# Altium footprint library CAPacitorMolded(Polarized).PcbLib: 10 footprints
Each footprint in its own frame and in the unit in brackets; x right, y up, seen from the top. Pads: shape width x height; smd on the part's side, far side on the other; paste and mask are expansions set on the pad; w line width, h text height; cw(c..) or ccw(c..) is an arc to the next point about the centre after c.
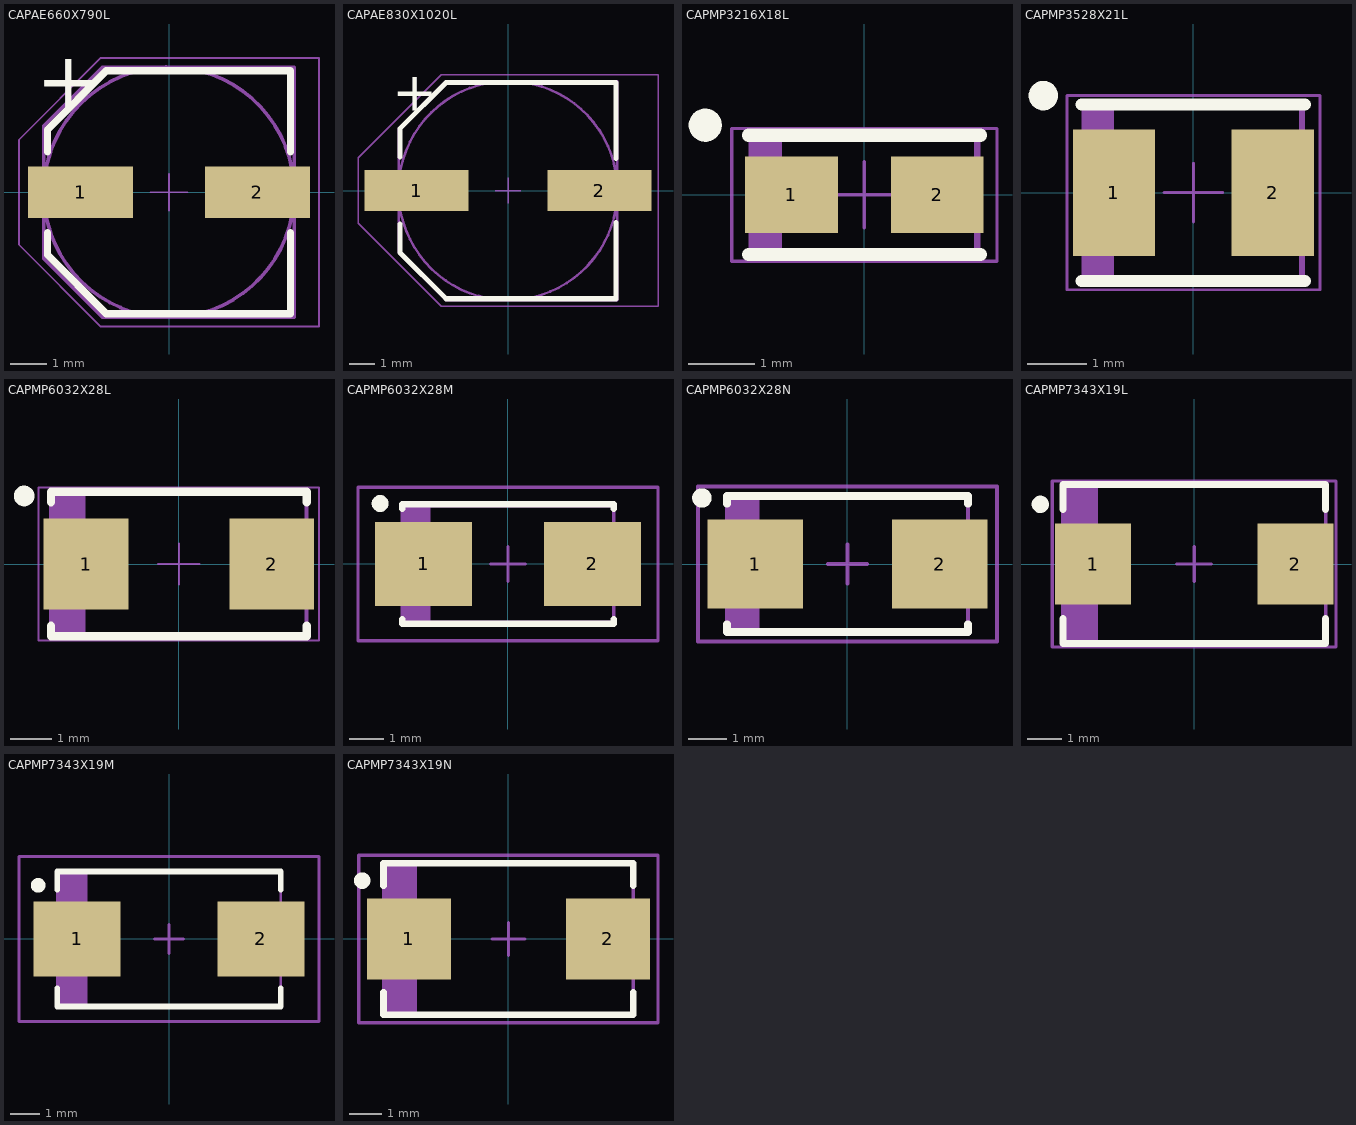
[diagram p0: the footprints below, top view; thin cyan lines are the x and y axes]

## CAPAE660X790L [mm] "Capacitor, Aluminium Electrolytic, 6.60mm L X 6.60mm W X 7.90mm H, CASE D8, IPC High Density"
height 7.9
pads (2):
  rect 2.85x1.4 smd: 1(-2.4,0) 2(2.4,0)
Top Overlay:
  lines w0.2: -3.3,-1.1 -3.3,-1.7 -1.7,-3.3 3.3,-3.3 3.3,-1.1 ; -3.3,1.1 -3.3,1.7 -1.7,3.3 3.3,3.3 3.3,1.1
  text "+" at -3.6,2.3 h1.52
TopBody:
  circle w0.1: c0,0 r3.401
  lines w0.1: -1.807,-3.4 3.4,-3.4 3.4,3.393 -1.807,3.393 -3.4,1.8 -3.4,-1.8 -1.807,-3.393
TopCourtyard:
  lines w0.05: -0.5,0 0,0 ; 0,-0.5 0,0 ; 0,0.5 0,0 ; 0.5,0 0,0 ; -4.075,-1.425 -1.85,-3.65 4.075,-3.65 4.075,3.65 -1.85,3.65 -4.075,1.425 -4.075,-1.425
3D body: height 2, standoff 0, extent -3.401,-3.401 3.401,3.394
3D body: height 8, standoff 0, extent -3.373,-3.393 3.4,3.393

## CAPAE830X1020L [mm] "Capacitor, Aluminium Electrolytic, 8.35mm L X 8.35mm W X 10.20mm H, CASE F, IPC High Density"
height 10.2
pads (2):
  rect 4.05x1.6 smd: 1(-3.55,0) 2(3.55,0)
Top Overlay:
  lines w0.2: -4.2,-1.3 -4.2,-2.4 -2.4,-4.2 4.2,-4.2 4.2,-1.25 ; -4.2,1.3 -4.2,2.4 -2.4,4.2 4.2,4.2 4.2,1.25
  text "+" at -4.5,3.1 h1.52
TopBody:
  circle w0.1: c0,0 r4.25
  lines w0.1: -4.25,-2.4 -2.4,-4.25 4.25,-4.25 4.25,4.25 -2.4,4.25 -4.25,2.4 -4.25,-2.4
TopCourtyard:
  lines w0.05: -0.5,0 0,0 ; 0,-0.5 0,0 ; 0,0.5 0,0 ; 0.5,0 0,0 ; -5.825,-1.275 -5.825,1.275 -2.6,4.5 5.825,4.5 5.825,-4.5 -2.6,-4.5 -5.825,-1.275
3D body: height 2, standoff 0, extent -4.25,-4.25 4.25,4.25
3D body: height 10.5, standoff 0, extent -4.216,-4.241 4.25,4.242

## CAPMP3216X18L [mm] "Molded Capacitor, 2-Leads, Body 3.2x1.6mm, IPC High Density, EIA 535BAAC, A Case"
height 1.8
pads (2):
  rect 1.4x1.15 smd: 1(-1.1,0) 2(1.1,0)
Top Overlay:
  circle w0.25: c-2.4,1.05 r0.125
  lines w0.2: -1.75,-0.9 1.75,-0.9 ; -1.75,0.9 1.75,0.9
TopBody:
  rectangle: -1.7,-0.9 -1.243,0.9
  lines w0.1: -1.7,-0.9 1.7,-0.9 1.7,0.9 -1.7,0.9 -1.7,-0.9
TopCourtyard:
  lines w0.05: -0.5,0 0.5,0 ; 0,-0.5 0,0.5 ; -2,-1 2,-1 2,1 -2,1 -2,-1
3D body: height 1.8, standoff 0, extent -1.7,-0.9 1.7,0.9

## CAPMP3528X21L [mm] "Molded Capacitor, 2-Leads, Body 3.5x2.8mm, IPC High Density, EIA 535BAAC, B Case"
height 2.1
pads (2):
  rect 1.4x2.15 smd: 1(-1.35,0) 2(1.35,0)
Top Overlay:
  circle w0.25: c-2.55,1.65 r0.125
  lines w0.2: -1.9,-1.5 1.9,-1.5 ; -1.9,1.5 1.9,1.5
TopBody:
  rectangle: -1.85,-1.5 -1.352,1.5
  lines w0.1: -1.85,-1.5 -1.85,1.5 1.85,1.5 1.85,-1.5 -1.85,-1.5
TopCourtyard:
  lines w0.05: -0.5,0 0.5,0 ; 0,-0.5 0,0.5 ; -2.15,-1.65 -2.15,1.65 2.15,1.65 2.15,-1.65 -2.15,-1.65
3D body: height 2.1, standoff 0, extent -1.85,-1.5 1.85,1.5

## CAPMP6032X28L [mm] "Molded Capacitor, 2-Leads, Body 6.0x3.3mm, IPC High Density"
height 2.8
pads (2):
  rect 2.05x2.2 smd: 1(-2.25,0) 2(2.25,0)
Top Overlay:
  circle w0.25: c-3.75,1.65 r0.125
  lines w0.2: -3.1,-1.5 -3.1,-1.75 3.1,-1.75 3.1,-1.5 ; -3.1,1.5 -3.1,1.75 3.1,1.75 3.1,1.5
TopBody:
  rectangle: -3.1,-1.7 -2.266,1.7
  lines w0.1: -3.1,-1.7 -3.1,1.7 3.1,1.7 3.1,-1.7 -3.1,-1.7
TopCourtyard:
  lines w0.05: -0.5,0 0.5,0 ; 0,-0.5 0,0.5 ; -3.4,-1.85 -3.4,1.85 3.4,1.85 3.4,-1.85 -3.4,-1.85
3D body: height 2.8, standoff 0, extent -3.1,-1.7 3.1,1.7

## CAPMP6032X28M [mm] "Molded Capacitor, 2-Leads, Body 6.0x3.3mm, IPC Low Density"
height 2.8
pads (2):
  rect 2.85x2.45 smd: 1(-2.475,0) 2(2.475,0)
Top Overlay:
  circle w0.25: c-3.75,1.775 r0.125
  lines w0.2: -3.1,-1.625 -3.1,-1.75 3.1,-1.75 3.1,-1.625 ; -3.1,1.625 -3.1,1.75 3.1,1.75 3.1,1.625
TopBody:
  rectangle: -3.1,-1.7 -2.266,1.7
  lines w0.1: -3.1,-1.7 3.1,-1.7 3.1,1.7 -3.1,1.7 -3.1,-1.7
TopCourtyard:
  lines w0.1: -0.5,0 0.5,0 ; 0,-0.5 0,0.5 ; -4.4,-2.25 4.4,-2.25 4.4,2.25 -4.4,2.25 -4.4,-2.25
3D body: height 2.8, standoff 0, extent -3.1,-1.7 3.1,1.7

## CAPMP6032X28N [mm] "Molded Capacitor, 2-Leads, Body 6.0x3.3mm, IPC Medium Density"
height 2.8
pads (2):
  rect 2.45x2.3 smd: 1(-2.375,0) 2(2.375,0)
Top Overlay:
  circle w0.25: c-3.75,1.7 r0.125
  lines w0.2: -3.1,-1.55 -3.1,-1.75 3.1,-1.75 3.1,-1.55 ; -3.1,1.55 -3.1,1.75 3.1,1.75 3.1,1.55
TopBody:
  rectangle: -3.1,-1.7 -2.266,1.7
  lines w0.1: -3.1,-1.7 3.1,-1.7 3.1,1.7 -3.1,1.7 -3.1,-1.7
TopCourtyard:
  lines w0.1: -0.5,0 0.5,0 ; 0,-0.5 0,0.5 ; -3.85,-2 3.85,-2 3.85,2 -3.85,2 -3.85,-2
3D body: height 2.8, standoff 0, extent -3.1,-1.7 3.1,1.7

## CAPMP7343X19L [mm] "Molded Capacitor, 2-Leads, Body 7.3x4.3mm, IPC High Density"
height 1.9
pads (2):
  rect 2.2x2.35 smd: 1(-2.925,0) 2(2.925,0)
Top Overlay:
  circle w0.25: c-4.45,1.725 r0.125
  lines w0.2: -3.8,-1.575 -3.8,-2.3 3.8,-2.3 3.8,-1.575 ; -3.8,1.575 -3.8,2.3 3.8,2.3 3.8,1.575
TopBody:
  rectangle: -3.8,-2.3 -2.778,2.3
  lines w0.1: -3.8,-2.3 -3.8,2.3 3.8,2.3 3.8,-2.3 -3.8,-2.3
TopCourtyard:
  lines w0.1: -0.5,0 0.5,0 ; 0,-0.5 0,0.5 ; -4.1,-2.4 -4.1,2.4 4.1,2.4 4.1,-2.4 -4.1,-2.4
3D body: height 1.9, standoff 0, extent -3.8,-2.3 3.8,2.3

## CAPMP7343X19M [mm] "Molded Capacitor, 2-Leads, Body 7.3x4.3mm, IPC Low Density"
height 1.9
pads (2):
  rect 2.95x2.55 smd: 1(-3.125,0) 2(3.125,0)
Top Overlay:
  circle w0.25: c-4.45,1.825 r0.125
  lines w0.2: -3.8,-1.675 -3.8,-2.3 3.8,-2.3 3.8,-1.675 ; -3.8,1.675 -3.8,2.3 3.8,2.3 3.8,1.675
TopBody:
  rectangle: -3.8,-2.3 -2.778,2.3
  lines w0.1: -3.8,-2.3 3.8,-2.3 3.8,2.3 -3.8,2.3 -3.8,-2.3
TopCourtyard:
  lines w0.1: -0.5,0 0.5,0 ; 0,-0.5 0,0.5 ; -5.1,-2.8 5.1,-2.8 5.1,2.8 -5.1,2.8 -5.1,-2.8
3D body: height 1.9, standoff 0, extent -3.8,-2.3 3.8,2.3

## CAPMP7343X19N [mm] "Molded Capacitor, 2-Leads, Body 7.3x4.3mm, IPC Medium Density"
height 1.9
pads (2):
  rect 2.55x2.45 smd: 1(-3.025,0) 2(3.025,0)
Top Overlay:
  circle w0.25: c-4.45,1.775 r0.125
  lines w0.2: -3.8,-1.625 -3.8,-2.3 3.8,-2.3 3.8,-1.625 ; -3.8,1.625 -3.8,2.3 3.8,2.3 3.8,1.625
TopBody:
  rectangle: -3.8,-2.3 -2.778,2.3
  lines w0.1: -3.8,-2.3 3.8,-2.3 3.8,2.3 -3.8,2.3 -3.8,-2.3
TopCourtyard:
  lines w0.1: -0.5,0 0.5,0 ; 0,-0.5 0,0.5 ; -4.55,-2.55 4.55,-2.55 4.55,2.55 -4.55,2.55 -4.55,-2.55
3D body: height 1.9, standoff 0, extent -3.8,-2.3 3.8,2.3